# Altium schematic symbol library TNBZLY.SchLib: 37 symbols
Pins are listed as number, name and electrical type; pins without a type are passive.

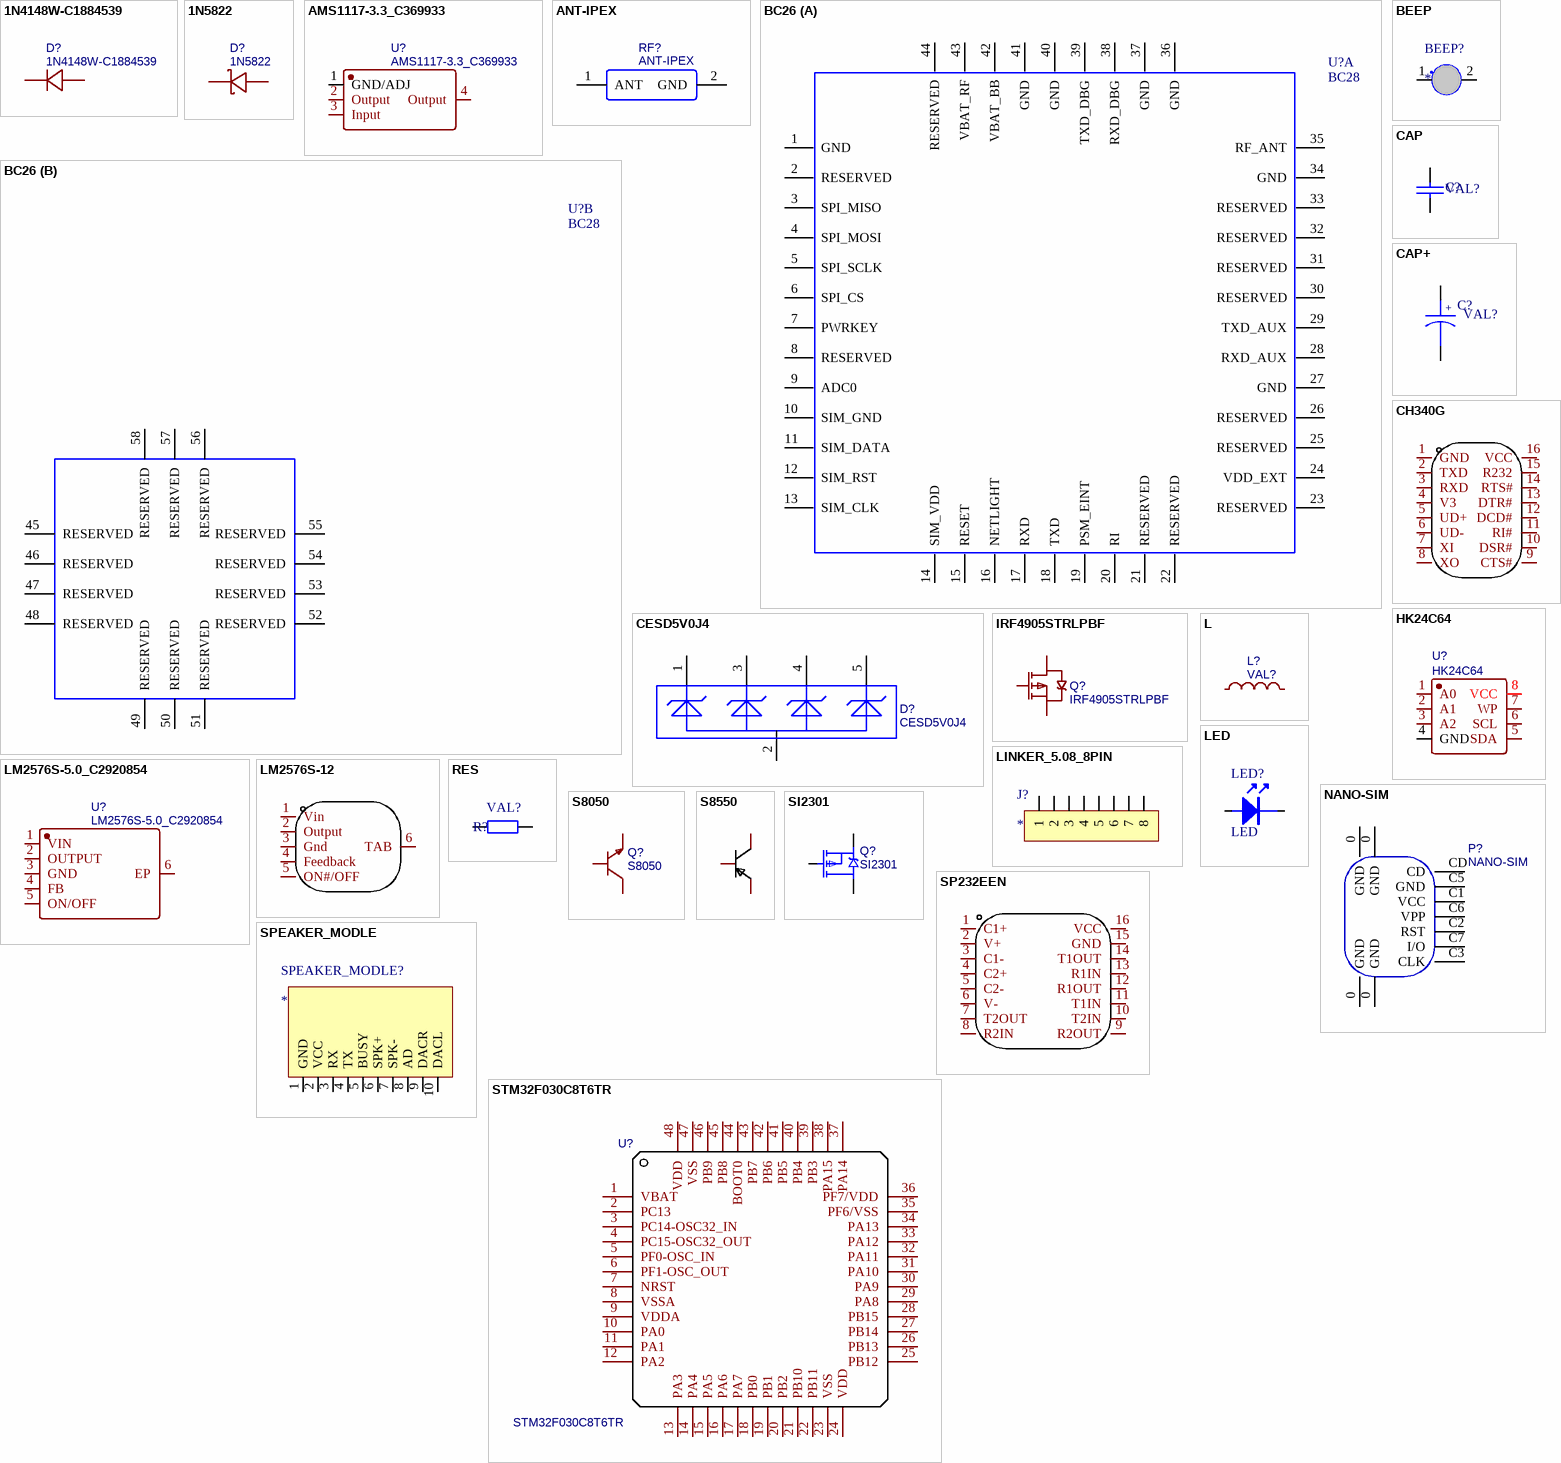
[diagram p0: symbols 1N4148W-C1884539 to STM32F030C8T6TR]

## 1N4148W-C1884539
designator D?
BOM_Manufacturer: YFW佑风微; Contributor: LCSC; BOM_Supplier: LCSC; BOM_Supplier Part: C1884539; BOM_Manufacturer Part: 1N4148W; BOM_JLCPCB Part Class: Extended Part; spicePre: D; spiceSymbolName: 1N4148W-C1884539
footprint SOD-123_4148
pins: 1, 2

## 1N5822
designator D?
BOM_Manufacturer: KEXIN; BOM_Manufacturer Part: 1N5819; Contributor: LCSC; BOM_Supplier: LCSC; BOM_Supplier Part: C437199; BOM_JLCPCB Part Class: Extended Part; spicePre: D; spiceSymbolName: 1N5819_C437199
footprint SMA_L4.4-W2.8-LS5.4-RD
pins: 1 C, 2 A

## AMS1117-3.3_C369933
designator U?
AMS1117-3.3; BOM_Manufacturer: KEXIN; Contributor: LCSC; BOM_Supplier: LCSC; BOM_Supplier Part: C369933; BOM_Manufacturer Part: AMS1117-3.3; BOM_JLCPCB Part Class: Extended Part; spicePre: U; spiceSymbolName: AMS1117-3.3_C369933
footprint SOT-223-4_L6.5-W3.5-P2.30-LS7.0-BR
pins: 1 GND/ADJ, 2 Output, 3 Input, 4 Output

## ANT-IPEX
designator RF?
BOM_Manufacturer: Shenzhen Kinghelm Elec; BOM_Manufacturer Part: KH-IPEX-K501-29; Contributor: mengruisheng; BOM_Supplier: LCSC; BOM_Supplier Part: C411563; spicePre: R; spiceSymbolName: ANT-IPEX
footprint ANT-IPEX
pins: 1 ANT, 2 GND

## BC26
designator U?, comment BC28
Part Description: *; Value: *; Geometry.Height: *; Manufacturer: *; PCB DECAL: *
footprint BC26
part A pins: 1 GND, 2 RESERVED, 3 SPI_MISO, 4 SPI_MOSI, 5 SPI_SCLK, 6 SPI_CS, 7 PWRKEY, 8 RESERVED, 9 ADC0, 10 SIM_GND, 11 SIM_DATA, 12 SIM_RST, 13 SIM_CLK, 14 SIM_VDD, 15 RESET, 16 NETLIGHT, 17 RXD, 18 TXD, 19 PSM_EINT, 20 RI, 21 RESERVED, 22 RESERVED, 23 RESERVED, 24 VDD_EXT, 25 RESERVED, 26 RESERVED, 27 GND, 28 RXD_AUX, 29 TXD_AUX, 30 RESERVED, 31 RESERVED, 32 RESERVED, 33 RESERVED, 34 GND, 35 RF_ANT, 36 GND, 37 GND, 38 RXD_DBG, 39 TXD_DBG, 40 GND, 41 GND, 42 VBAT_BB, 43 VBAT_RF, 44 RESERVED
part B pins: 45 RESERVED, 46 RESERVED, 47 RESERVED, 48 RESERVED, 49 RESERVED, 50 RESERVED, 51 RESERVED, 52 RESERVED, 53 RESERVED, 54 RESERVED, 55 RESERVED, 56 RESERVED, 57 RESERVED, 58 RESERVED
2 alternate drawings of the same symbol

## BEEP
designator BEEP?
footprint beep
pins: 1, 2

## CAP
designator C?, comment value VAL?  (hidden comment: Capacitor)
footprint 0805C
footprint 0603C
footprint 1206C
pins: 1, 2

## CAP+
designator C?, comment value VAL?  (hidden comment: Capacitor)
footprint RB.1/.2
footprint RB.2/.4
footprint RB.3/.6
footprint RB.4/.8
footprint RB.1/.3
footprint CAP-TH_BD8.0-P3.50-D0.6-FD (8*12 (100uf 50v) (1000uf 10v))
footprint CAP-TH_BD5.0-P2.00-D0.8-FD
footprint 100uf6.3v钽电容
footprint CAP-TH_BD10.0-P5.00-D0.6-FD (330uf 50v)
footprint CAP-TH_BD12.5-P5.00-D0.6-FD (1000uf 50v)
pins: 1, 2
text: +

## CESD5V0J4
designator D?
BOM_Manufacturer: CJ江苏长电; Contributor: mengruisheng; spicePre: D; spiceSymbolName: CESD5V0J4; BOM_Manufacturer Part: CESD5V0J4; BOM_Supplier: LCSC; BOM_Supplier Part: C148117
footprint SOT-353
pins: 1, 2, 3, 4, 5

## CH340G
designator U??  (value not drawn)
Manufacturer: WCH(南京沁恒); Add into BOM: yes; Protocol: USB 2.0; Data Rate: 2Mbps; Supply Voltage: 3.3V, 5V; Name: CH340G; Symbol: CH340G; Device: CH340G; LCSC Part Name: CH340G; Supplier Part: C14267; Manufacturer Part: CH340G; Supplier Footprint: SOP-16_150mil; JLCPCB Part Class: Extended Part; Datasheet: https://atta.szlcsc.com/upload/public/pdf/source/20200819/C14267_9F0B4B8160AEBA86F3219E64956E4601.pdf; Supplier: LCSC; Convert to PCB: yes; Type: Transceiver; Number of Drivers/Receivers: -
footprint SOIC-16_L9.9-W3.9-P1.27-LS6.0-BL
3D model SOIC-16_L9.9-W3.9-H1.8-LS6.0-P1.27
pins: 1 GND, 2 TXD, 3 RXD, 4 V3, 5 UD+, 6 UD-, 7 XI, 8 XO, 9 CTS#, 10 DSR#, 11 RI#, 12 DCD#, 13 DTR#, 14 RTS#, 15 R232, 16 VCC

## HK24C64
designator U?
BOM_Manufacturer: HK; Contributor: LCSC; BOM_Supplier: LCSC; BOM_Supplier Part: C495289; BOM_Manufacturer Part: HK24C64; BOM_JLCPCB Part Class: Extended Part; spicePre: U; spiceSymbolName: HK24C64
footprint SOIC-8_L5.0-W4.0-P1.27-LS6.0-BL
pins: 1 A0, 2 A1, 3 A2, 4 GND, 5 SDA, 6 SCL, 7 WP, 8 VCC

## IRF4905STRLPBF
designator Q?
BOM_Manufacturer: IR; BOM_Supplier: LCSC; BOM_Manufacturer Part: IRF4905STRLPBF; BOM_Supplier Part: C2620; BOM_JLCPCB Part Class: Extended Part; spicePre: Q; spiceSymbolName: IRF4905STRLPBF
footprint D2PAK_L9.1-W10.0-P2.54-LS15.3-TL
pins: 1 G, 3 S, 4 D

## L
designator L?, comment VAL?
Inductance; BOM_Manufacturer: FH; BOM_Manufacturer Part: VLU0810-101K; BOM_Supplier: LCSC; nameAlias: Inductance; BOM_Supplier Part: C72630; BOM_JLCPCB Part Class: Extended Part; spicePre: L; spiceSymbolName: VLU0810-101K
footprint IND-TH_BD10.0-P5.00-D0.7
footprint 43uh 3A电感
pins: 1, 2

## LED
designator LED?
footprint 0603-LED
footprint LED-TH_BD4.3-P2.54 (直插LED)
pins: 1, 2

## LINKER_5.08_8PIN
designator J?
footprint HEADER_8PIN_5.08 (5.08MM间距接线端子)
pins: 1, 2, 3, 4, 5, 6, 7, 8

## LM2576S-5.0_C2920854
designator U?
LM2576S-5.0; BOM_Manufacturer: minos(迈诺斯); Contributor: LCSC; BOM_Supplier: LCSC; BOM_Supplier Part: C2920854; BOM_Manufacturer Part: LM2576S-5.0; BOM_JLCPCB Part Class: Extended Part; spicePre: U; spiceSymbolName: LM2576S-5.0_C2920854
footprint TO-263-5_L10.2-W8.6-P1.70-LS14.4-TL
pins: 1 VIN, 2 OUTPUT, 3 GND, 4 FB, 5 ON/OFF, 6 EP

## LM2576S-12
designator U??  (value not drawn)
Manufacturer: UMW(友台半导体); Symbol: LM2576S-12_C347414; Add into BOM: yes; Function: 降压型; Number of Outputs: 1; Topology: 降压式; Input Voltage: 45V; Output Voltage: 12V; Output Current (Max): 3A; Switching Frequency: 52kHz; Quiescent Current (Iq): 5mA; Name: LM2576S-12; Device: LM2576S-12; LCSC Part Name: 降压型 45V 3A 52kHz; Supplier Part: C347414; Manufacturer Part: LM2576S-12; Supplier Footprint: TO-263; JLCPCB Part Class: Extended Part; Datasheet: https://atta.szlcsc.com/upload/public/pdf/source/20200930/C347415_DA319A255B2DA9A61B887CCC45753B80.pdf; Supplier: LCSC; Convert to PCB: yes; Synchronous Rectification: -; Operating Temperature: -40℃~+125℃@(Ta)
footprint TO-263-5_L10.2-W8.9-P1.70-BR
3D model TO-263-5-5P_L10.2-W8.7-H4.5-LS14.4-P1.70
pins: 1 Vin, 2 Output, 3 Gnd, 4 Feedback, 5 ON#/OFF, 6 TAB

## NANO-SIM
designator P?
BOM_Manufacturer Part: SMN-303; BOM_Manufacturer: XUNPU(讯普); Contributor: mengruisheng; spicePre: P; spiceSymbolName: NANO-SIM; BOM_Supplier: LCSC; BOM_Supplier Part: C266888
footprint SIM-NANO_SMN-303
pins: 0 GND, 0 GND, 0 GND, 0 GND, C1 VCC, C2 RST, C3 CLK, C5 GND, C6 VPP, C7 I/O, CD

## RES
designator R?, comment value VAL?  (hidden comment: Resistor)
Resistor SMD - IEC symbol version; LatestRevisionDate: 27-Jul-20  -  Semtech
footprint 0603R
footprint 0805R
footprint 1206R
footprint 3216R
footprint R2512 (康铜丝)
pins: 1, 2

## S8050
designator Q?
BOM_Manufacturer: BORN伯恩半导体; Contributor: mengruisheng; BOM_Supplier Part: C266592; BOM_Supplier: LCSC; spicePre: Q; spiceSymbolName: NPN; BOM_Manufacturer Part: S8050
footprint SOT-23
pins: 1 B, 2 E, 3 C

## S8550
designator Q??  (value not drawn)
Manufacturer: UMW(友台半导体); Symbol: S8550_C545533; Add into BOM: yes; Transistor Type: PNP; Collector-Emitter Breakdown Voltage (Vceo): 25V; Collector Current (Ic): 500mA; Power Dissipation (Pd): 300mW; Collector-Emitter Saturation Voltage (VCE(sat)@Ic,Ib): 600mV@500mA,50mA; Transition Frequency (fT): 150MHz; Name: S8550; Device: S8550; LCSC Part Name: S8550; Supplier Part: C545533; Manufacturer Part: S8550; Supplier Footprint: SOT-23-3; JLCPCB Part Class: Extended Part; Datasheet: https://atta.szlcsc.com/upload/public/pdf/source/20211011/8CBA04D874BE5A0FC10F979D18183A3A.pdf; Supplier: LCSC; Convert to PCB: yes; DC Current Gain (hFE@Ic,Vce): -; Operating Temperature: +150℃@(Tj)
footprint SOT-23-3_L2.9-W1.3-P1.90-LS2.4-BR
3D model SOT-23-3P_L2.9-W1.3-H1.0-LS2.4-P0.95
pins: 1 B, 2 E, 3 C

## SI2301
designator Q?
BOM_Manufacturer: Hottech(合科泰); Contributor: mengruisheng; spicePre: Q; spiceSymbolName: PMOS; BOM_Manufacturer Part: SI2301; BOM_Supplier: LCSC; BOM_Supplier Part: C181086
footprint SOT-23
pins: 1 G, 2 S, 3 D

## SP232EEN
designator U??  (value not drawn)
Manufacturer: UMW(友台半导体); Add into BOM: yes; Name: SP232EEN; Symbol: SP232EEN; Device: SP232EEN; LCSC Part Name: SP232EEN; Supplier Part: C2904740; Manufacturer Part: SP232EEN; Supplier Footprint: SOP-16; JLCPCB Part Class: Extended Part; Datasheet: https://atta.szlcsc.com/upload/public/pdf/source/20211013/5EC055FC4758CD71FB881DF87C872501.pdf; Supplier: LCSC; Convert to PCB: yes
footprint SOP-16_L9.9-W3.9-P1.27-LS6.0-BL
3D model SOP-16_L9.9-W3.9-P1.27-LS6.0-BL
pins: 1 C1+, 2 V+, 3 C1-, 4 C2+, 5 C2-, 6 V-, 7 T2OUT, 8 R2IN, 9 R2OUT, 10 T2IN, 11 T1IN, 12 R1OUT, 13 R1IN, 14 T1OUT, 15 GND, 16 VCC

## SPEAKER_MODLE
designator SPEAKER_MODLE?
footprint SPEAKER_MODLE
pins: 1 GND, 2 VCC, 3 RX, 4 TX, 5 BUSY, 6 SPK+, 7 SPK-, 8 AD, 9 DACR, 10 DACL

## STM32F030C8T6TR
designator U?
BOM_Manufacturer: STMicroelectronics; SMT Type: Extend; Package Display: No; BOM_Supplier: LCSC; BOM_Manufacturer Part: STM32F030C8T6TR; image: //image.lceda.cn/szlcsc/C40053.jpg; BOM_Supplier Part: C40053; BOM_LCSC Assembly: Yes; spicePre: U; spiceSymbolName: STM32F030C8T6TR
footprint LQFP-48_L7.0-W7.0-P0.50-LS9.0-BL
pins: 1 VBAT, 2 PC13, 3 PC14-OSC32_IN, 4 PC15-OSC32_OUT, 5 PF0-OSC_IN, 6 PF1-OSC_OUT, 7 NRST, 8 VSSA, 9 VDDA, 10 PA0, 11 PA1, 12 PA2, 13 PA3, 14 PA4, 15 PA5, 16 PA6, 17 PA7, 18 PB0, 19 PB1, 20 PB2, 21 PB10, 22 PB11, 23 VSS, 24 VDD, 25 PB12, 26 PB13, 27 PB14, 28 PB15, 29 PA8, 30 PA9, 31 PA10, 32 PA11, 33 PA12, 34 PA13, 35 PF6/VSS, 36 PF7/VDD, 37 PA14, 38 PA15, 39 PB3, 40 PB4, 41 PB5, 42 PB6, 43 PB7, 44 BOOT0, 45 PB8, 46 PB9, 47 VSS, 48 VDD

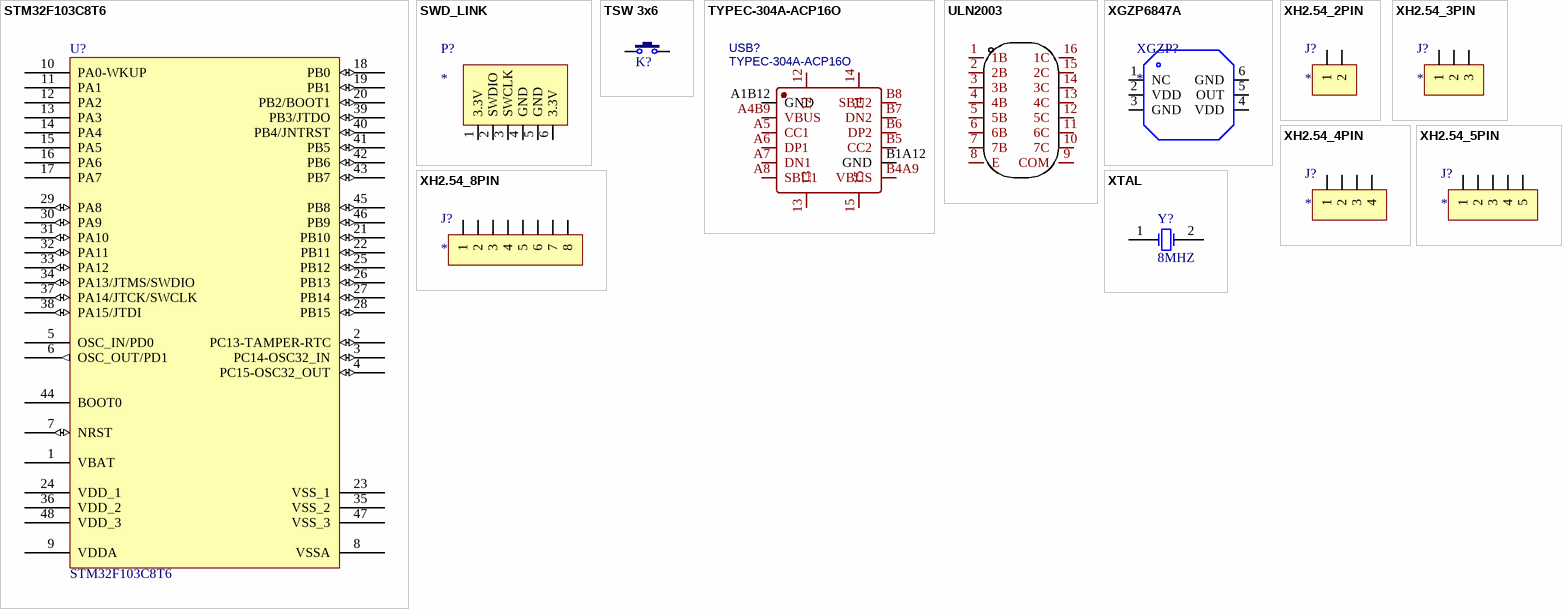
[diagram p1: symbols STM32F103C8T6 to XTAL]

## STM32F103C8T6
designator U?
Flaah:64/RAM:20/IO:36; BOM名称: 32位STM单片机; 版权归属: 源创客; 学习资源: www.ooocke.com
footprint LQFP48 7X7_N (48脚，体宽7x7mm，脚距0.5mm)
footprint LQFP48 7X7_M (48脚，体宽7x7mm，脚距0.5mm)
footprint LQFP48 7X7_L (48脚，体宽7x7mm，脚距0.5mm)
footprint LQFP48 7X7_M (48脚，体宽7x7mm，脚距0.5mm      淘宝ID:黄晶宝石)
pins: 1 VBAT (power), 2 PC13-TAMPER-RTC (io), 3 PC14-OSC32_IN (io), 4 PC15-OSC32_OUT (io), 5 OSC_IN/PD0, 6 OSC_OUT/PD1 (out), 7 NRST (io), 8 VSSA (power), 9 VDDA (power), 10 PA0-WKUP, 11 PA1, 12 PA2, 13 PA3, 14 PA4, 15 PA5, 16 PA6, 17 PA7, 18 PB0 (io), 19 PB1 (io), 20 PB2/BOOT1 (io), 21 PB10 (io), 22 PB11 (io), 23 VSS_1 (power), 24 VDD_1 (power), 25 PB12 (io), 26 PB13 (io), 27 PB14 (io), 28 PB15 (io), 29 PA8 (io), 30 PA9 (io), 31 PA10 (io), 32 PA11 (io), 33 PA12 (io), 34 PA13/JTMS/SWDIO (io), 35 VSS_2 (power), 36 VDD_2 (power), 37 PA14/JTCK/SWCLK (io), 38 PA15/JTDI (io), 39 PB3/JTDO (io), 40 PB4/JNTRST (io), 41 PB5 (io), 42 PB6 (io), 43 PB7 (io), 44 BOOT0, 45 PB8 (io), 46 PB9 (io), 47 VSS_3 (power), 48 VDD_3 (power)

## SWD_LINK
designator P?
footprint SWD_LINK (Connector; Header; 10x2 Position)
pins: 1 3.3V, 2 SWDIO, 3 SWCLK, 4 GND, 5 GND, 6 3.3V

## TSW 3x6
designator K?, comment 3x6x5  (value not drawn)
3x6轻触开关; 版权归属: 源创客; BOM名称: 3x6轻触开关; 学习资源: www.ooocke.com
footprint TSW SMD-3*6*2.5 (3*6*2.5mm)
footprint TSW DIP-3*6*5_V (侧按轻触开关 3*6*5mm)
footprint TSW DIP-3*6*4.3 (3*6*4.3mm)
footprint TSW DIP-3*6*4.3_V (侧按轻触开关 3*6*4.3mm)
footprint TSW DIP-3*6*5 (3*6*5mm)
footprint TSW SMD-3*6*4.3 (3*6*4.3mm)
footprint TSW SMD-3*6*5 (3*6*5mm)
pins: 1, 2

## TYPEC-304A-ACP16O
designator USB?
BOM_Manufacturer: XUNPU(讯普); Contributor: LCSC; BOM_Supplier: LCSC; BOM_Supplier Part: C2909610; BOM_Manufacturer Part: TYPEC-304A-ACP16O; BOM_JLCPCB Part Class: Extended Part; spicePre: U; spiceSymbolName: TYPEC-304A-ACP16O
footprint USB-SMD_TYPEC-304A-ACP16O
pins: 12, 13, 14, 15, A1B12 GND, A4B9 VBUS, A5 CC1, A6 DP1, A7 DN1, A8 SBU1, B1A12 GND, B4A9 VBUS, B5 CC2, B6 DP2, B7 DN2, B8 SBU2

## ULN2003
designator U??  (value not drawn)
Manufacturer: BL(上海贝岭); Symbol: ULN2003_C2690547; Add into BOM: yes; Name: ULN2003; Device: ULN2003; LCSC Part Name: ULN2003; Supplier Part: C2690547; Manufacturer Part: ULN2003; Supplier Footprint: SOP-16; JLCPCB Part Class: Extended Part; Datasheet: https://atta.szlcsc.com/upload/public/pdf/source/20210222/C2690547_6F88A67AF02BD24907EB7F0260832D83.pdf; Supplier: LCSC; Convert to PCB: yes
footprint SOP-16_L10.0-W3.9-P1.27-LS6.0-BL (ULN2003 步进电机驱动)
3D model SOP-16_L9.9-W3.9-H1.5-LS6.0-P1.27
pins: 1 1B, 2 2B, 3 3B, 4 4B, 5 5B, 6 6B, 7 7B, 8 E, 9 COM, 10 7C, 11 6C, 12 5C, 13 4C, 14 3C, 15 2C, 16 1C

## XGZP6847A
designator XGZP?
气压传感器
footprint XGZP6847A (气压传感器)
pins: 1 NC, 2 VDD, 3 GND, 4 VDD, 5 OUT, 6 GND

## XH2.54_2PIN
designator J?
footprint HEADER_2PIN_2.54
pins: 1, 2

## XH2.54_3PIN
designator J?
footprint HEADER_3PIN_2.54
pins: 1, 2, 3

## XH2.54_4PIN
designator J?
footprint HEADER_4PIN_2.54
pins: 1, 2, 3, 4

## XH2.54_5PIN
designator J?
footprint HEADER_5PIN_2.54
pins: 1, 2, 3, 4, 5

## XH2.54_8PIN
designator J?
footprint HEADER_8PIN_2.54
pins: 1, 2, 3, 4, 5, 6, 7, 8

## XTAL
designator Y?, comment 8MHZ
Crystal Oscillator; Published: 8-Jun-2000; LatestRevisionDate: 17-Jul-2002; LatestRevisionNote: Re-released for DXP Platform.; PackageReference: R38; Publisher: Altium Limited; PackageDescription: Crystal, Thru-Hole; 2 Leads; Body 3.1 x 8.2 mm (Dia.xH)
footprint XTAL1
pins: 1 OSC1, 2 OSC2